# EAGLE library part M20-8891045 (library M20-8891045)
2.54mm (0.1") Pitch SIL SMT Horizontal Pin Header, 2.5mm housing height, gold, 10 contacts Source: Datasheet <https://cdn.harwin.com/pdfs/M20-889.pdf>
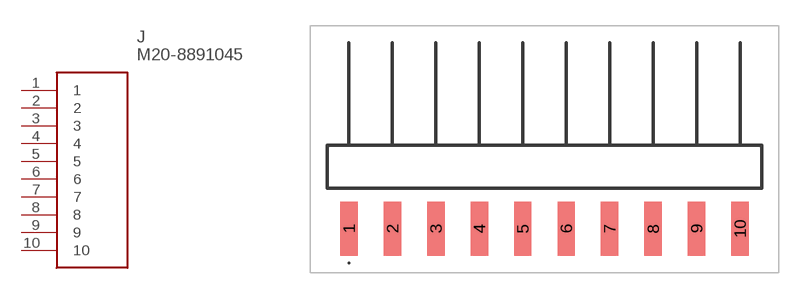
[diagram p0: symbol with the pads of M208891045; footprint M208891045]

Designator prefix J

## M20-8891045 (Description: 2.54mm (0.1") Pitch SIL SMT Horizontal Pin Header, 2.5mm housing height, gold, 10 contacts; Height: 2.65mm; Manufacturer_Name: Harwin; Manufacturer_Part_Number: M20-8891045; Mouser_Part_Number: 855-M20-8891045; Mouser_Price-Stock: https://www.mouser.co.uk/ProductDetail/Harwin/M20-8891045?qs=k41KVqW3ymoWRIXfp5Ho2g%3D%3D)  [M208891045]
1  1
2  2
3  3
4  4
5  5
6  6
7  7
8  8
9  9
10  10

## Footprint M208891045 (pad centres in mm)
M20-8891045-4
smd 1.02 x 3.17: 1 -11.43,-4.64; 2 -8.89,-4.64; 3 -6.35,-4.64; 4 -3.81,-4.64; 5 -1.27,-4.64; 6 1.27,-4.64; 7 3.81,-4.64; 8 6.35,-4.64; 9 8.89,-4.64; 10 11.43,-4.64